# EAGLE library part AD8334ACPZ (library AD8334ACPZ)
AD8334ACPZ, Programmable Gain Amplifier 4, 64-Pin LFCSP VQ Source: Datasheet <https://datasheet.datasheetarchive.com/originals/distributors/SFDatasheet-4/sf-00084955.pdf>
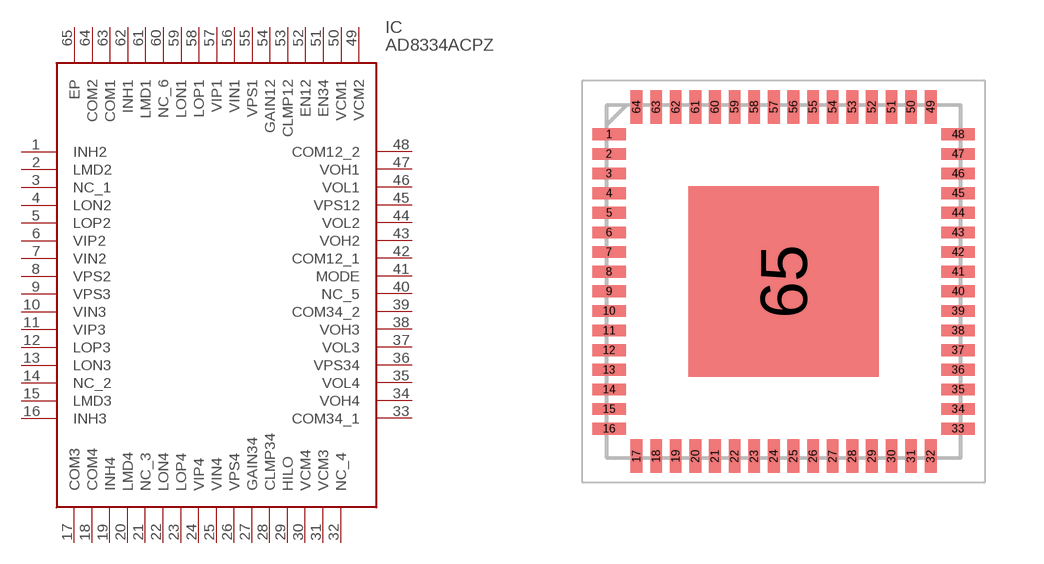
[diagram p0: symbol with the pads of QFN50P900X900X100-65N; footprint QFN50P900X900X100-65N]

Designator prefix IC

## AD8334ACPZ (Description: AD8334ACPZ, Programmable Gain Amplifier 4, 64-Pin LFCSP VQ; Height: 1mm; Manufacturer_Name: Analog Devices; Manufacturer_Part_Number: AD8334ACPZ; Mouser_Part_Number: 584-AD8334ACPZ; Mouser_Price-Stock: https://www.mouser.co.uk/ProductDetail/Analog-Devices/AD8334ACPZ?qs=%2FtpEQrCGXCzTJzxDI2lL6w%3D%3D)  [QFN50P900X900X100-65N]
1  INH2
2  LMD2
3  NC_1
4  LON2
5  LOP2
6  VIP2
7  VIN2
8  VPS2
9  VPS3
10  VIN3
11  VIP3
12  LOP3
13  LON3
14  NC_2
15  LMD3
16  INH3
17  COM3
18  COM4
19  INH4
20  LMD4
21  NC_3
22  LON4
23  LOP4
24  VIP4
25  VIN4
26  VPS4
27  GAIN34
28  CLMP34
29  HILO
30  VCM4
31  VCM3
32  NC_4
33  COM34_1
34  VOH4
35  VOL4
36  VPS34
37  VOL3
38  VOH3
39  COM34_2
40  NC_5
41  MODE
42  COM12_1
43  VOH2
44  VOL2
45  VPS12
46  VOL1
47  VOH1
48  COM12_2
49  VCM2
50  VCM1
51  EN34
52  EN12
53  CLMP12
54  GAIN12
55  VPS1
56  VIN1
57  VIP1
58  LOP1
59  LON1
60  NC_6
61  LMD1
62  INH1
63  COM1
64  COM2
65  EP

## Footprint QFN50P900X900X100-65N (pad centres in mm)
CP-64-1 (LFCSP)_BSC
smd 0.85 x 0.3: 1 -4.45,3.75; 2 -4.45,3.25; 3 -4.45,2.75; 4 -4.45,2.25; 5 -4.45,1.75; 6 -4.45,1.25; 7 -4.45,0.75; 8 -4.45,0.25; 9 -4.45,-0.25; 10 -4.45,-0.75; 11 -4.45,-1.25; 12 -4.45,-1.75; 13 -4.45,-2.25; 14 -4.45,-2.75; 15 -4.45,-3.25; 16 -4.45,-3.75; 33 4.45,-3.75; 34 4.45,-3.25; 35 4.45,-2.75; 36 4.45,-2.25; 37 4.45,-1.75; 38 4.45,-1.25; 39 4.45,-0.75; 40 4.45,-0.25; 41 4.45,0.25; 42 4.45,0.75; 43 4.45,1.25; 44 4.45,1.75; 45 4.45,2.25; 46 4.45,2.75; 47 4.45,3.25; 48 4.45,3.75
smd 0.3 x 0.85: 17 -3.75,-4.45; 18 -3.25,-4.45; 19 -2.75,-4.45; 20 -2.25,-4.45; 21 -1.75,-4.45; 22 -1.25,-4.45; 23 -0.75,-4.45; 24 -0.25,-4.45; 25 0.25,-4.45; 26 0.75,-4.45; 27 1.25,-4.45; 28 1.75,-4.45; 29 2.25,-4.45; 30 2.75,-4.45; 31 3.25,-4.45; 32 3.75,-4.45; 49 3.75,4.45; 50 3.25,4.45; 51 2.75,4.45; 52 2.25,4.45; 53 1.75,4.45; 54 1.25,4.45; 55 0.75,4.45; 56 0.25,4.45; 57 -0.25,4.45; 58 -0.75,4.45; 59 -1.25,4.45; 60 -1.75,4.45; 61 -2.25,4.45; 62 -2.75,4.45; 63 -3.25,4.45; 64 -3.75,4.45
smd 4.85 x 4.85: 65 0,0